# Altium schematic symbol library CDSOT23-T15C-Q.SchLib: 1 symbol
Pins are listed as number, name and electrical type; pins without a type are passive.

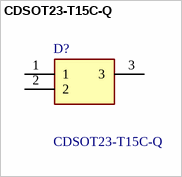
[diagram p0: symbol CDSOT23-T15C-Q]

## CDSOT23-T15C-Q
designator D?
ESD Suppressors / TVS Diodes TVS Diode 15V 500W BIDIR SOT23; Manufacturer_Name: Bourns; Geometry.Height: 1.17mm; Mouser Part Number: 652-CDSOT23-T15C-Q; Mouser Price/Stock: https://www.mouser.co.uk/ProductDetail/Bourns/CDSOT23-T15C-Q?qs=gZXFycFWdAPB6hWJxc%252Bycg%3D%3D; Manufacturer_Part_Number: CDSOT23-T15C-Q; Datasheet Link: https://www.bourns.com/docs/product-datasheets/CDSOT23-TxxC-Q.pdf
footprint SOT95P230X117-3N
pins: 1, 2, 3